# Altium schematic symbol library ISP1807-LR_Footprint.SchLib: 1 symbol
Pins are listed as number, name and electrical type; pins without a type are passive.

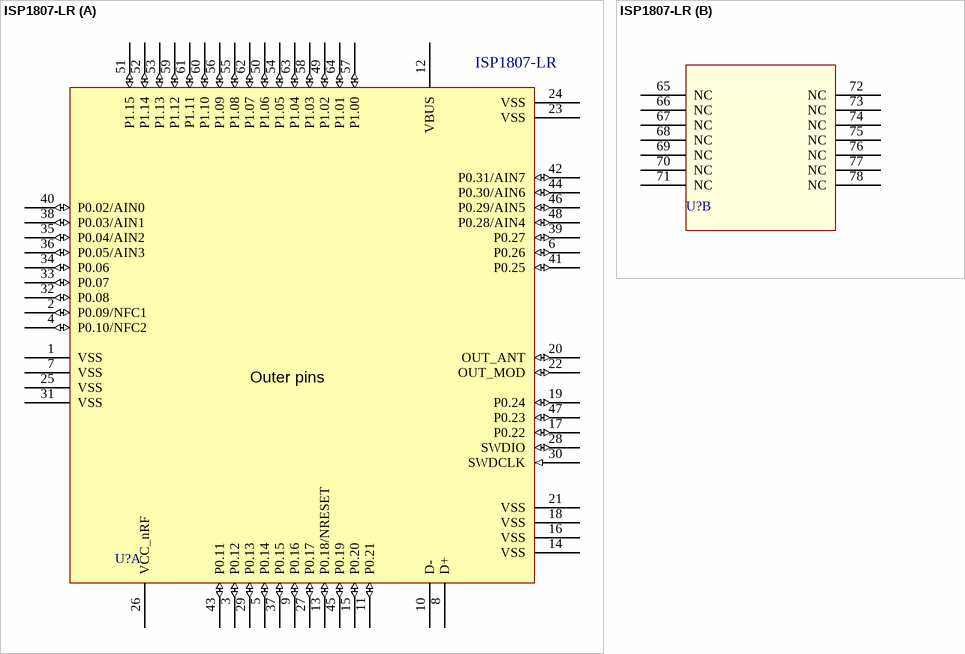
[diagram p0: symbol ISP1807-LR]

## ISP1807-LR
designator U?, comment REF: ISP1807-LR  (hidden comment: ISP1807)
ISP Smart Bluetooth Module; BOI-Metric: QFN 8 x 8; DESIG: BLE Module; FAB: Insight SiP; BOI: QFN 8 x 8; ISP_PART: ISP1807
footprint ISP1807-LR (Insight SiP BLE module all pins)
part A pins: 1 VSS (power), 2 P0.09/NFC1 (io), 3 P0.12 (io), 4 P0.10/NFC2 (io), 5 P0.14 (io), 6 P0.26 (io), 7 VSS (power), 8 D+ (power), 9 P0.16 (io), 10 D- (power), 11 P0.21 (io), 12 VBUS (power), 13 P0.18/NRESET (io), 14 VSS (power), 15 P0.20 (io), 16 VSS (power), 17 P0.22 (io), 18 VSS (power), 19 P0.24 (io), 20 OUT_ANT (io), 21 VSS (power), 22 OUT_MOD (io), 23 VSS (power), 24 VSS (power), 25 VSS (power), 26 VCC_nRF (power), 27 P0.17 (io), 28 SWDIO (io), 29 P0.13 (io), 30 SWDCLK (in), 31 VSS (power), 32 P0.08 (io), 33 P0.07 (io), 34 P0.06 (io), 35 P0.04/AIN2 (io), 36 P0.05/AIN3 (io), 37 P0.15 (io), 38 P0.03/AIN1 (io), 39 P0.27 (io), 40 P0.02/AIN0 (io), 41 P0.25 (io), 42 P0.31/AIN7 (io), 43 P0.11 (io), 44 P0.30/AIN6 (io), 45 P0.19 (io), 46 P0.29/AIN5 (io), 47 P0.23 (io), 48 P0.28/AIN4 (io), 49 P1.02 (io), 50 P1.06 (io), 51 P1.15 (io), 52 P1.14 (io), 53 P1.13 (io), 54 P1.05 (io), 55 P1.08 (io), 56 P1.09 (io), 57 P1.00 (io), 58 P1.03 (io), 59 P1.12 (io), 60 P1.10 (io), 61 P1.11 (io), 62 P1.07 (io), 63 P1.04 (io), 64 P1.01 (io)
part B pins: 65 NC, 66 NC, 67 NC, 68 NC, 69 NC, 70 NC, 71 NC, 72 NC, 73 NC, 74 NC, 75 NC, 76 NC, 77 NC, 78 NC
part A text: Outer pins